# EAGLE library part ADS1115 (library zz-upenn 2)
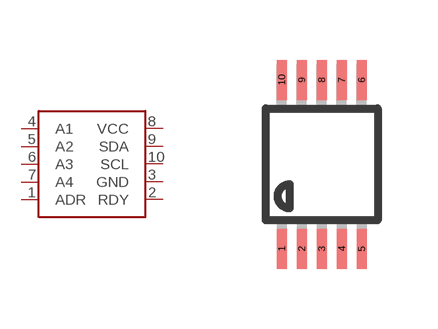
[diagram p35: symbol with the pads of MSOP-10; footprint MSOP-10]

Designator prefix -

## ADS1115  [MSOP-10]
1  ADR
2  RDY
3  GND
4  A1
5  A2
6  A3
7  A4
8  VCC
9  SDA
10  SCL

## Footprint MSOP-10 (pad centres in mm)
smd 0.25 x 1: 1 -1,-2.113; 2 -0.5,-2.113; 3 0,-2.113; 4 0.5,-2.113; 5 1,-2.113; 6 1,2.113; 7 0.5,2.113; 8 0,2.113; 9 -0.5,2.113; 10 -1,2.113